# EAGLE library part SC16IS752 (library Skoba)
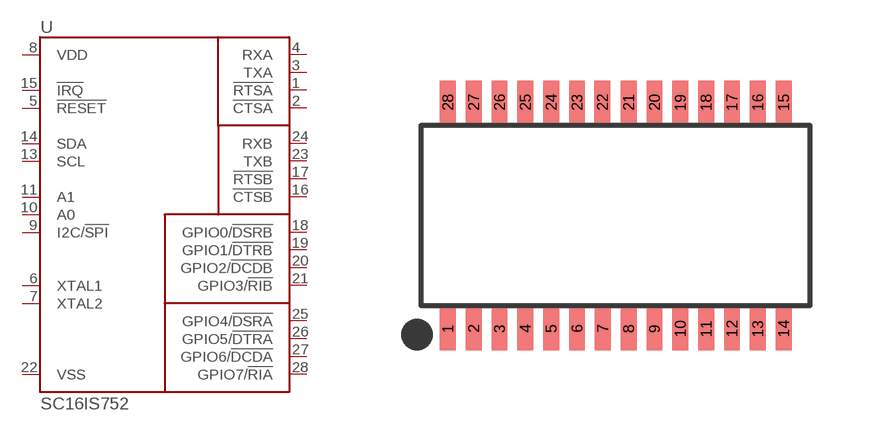
[diagram p31: symbol with the pads of TSSOP28; footprint TSSOP28]

Designator prefix U

## SC16IS752TSSOP28  [TSSOP28]
1  !RTSA
2  !CTSA
3  TXA
4  RXA
5  !RESET
6  XTAL1
7  XTAL2
8  VDD
9  I2C/!SPI
10  A0
11  A1
13  SCL
14  SDA
15  !IRQ
16  !CTSB
17  !RTSB
18  GPIO0/!DSRB
19  GPIO1/!DTRB
20  GPIO2/!DCDB
21  GPIO3/!RIB
22  VSS
23  TXB
24  RXB
25  GPIO4/!DSRA
26  GPIO5/!DTRA
27  GPIO6/!DCDA
28  GPIO7/!RIA

## Footprint TSSOP28 (pad centres in mm)
smd 0.4 x 1.1: 1 -4.225,-2.85; 2 -3.575,-2.85; 3 -2.925,-2.85; 4 -2.275,-2.85; 5 -1.625,-2.85; 6 -0.975,-2.85; 7 -0.325,-2.85; 8 0.325,-2.85; 9 0.975,-2.85; 10 1.625,-2.85; 11 2.275,-2.85; 12 2.925,-2.85; 13 3.575,-2.85; 14 4.225,-2.85; 15 4.225,2.85; 16 3.575,2.85; 17 2.925,2.85; 18 2.275,2.85; 19 1.625,2.85; 20 0.975,2.85; 21 0.325,2.85; 22 -0.335,2.85; 23 -0.975,2.85; 24 -1.625,2.85; 25 -2.275,2.85; 26 -2.925,2.85; 27 -3.575,2.85; 28 -4.225,2.85